# EAGLE library part LM3524 (library work)
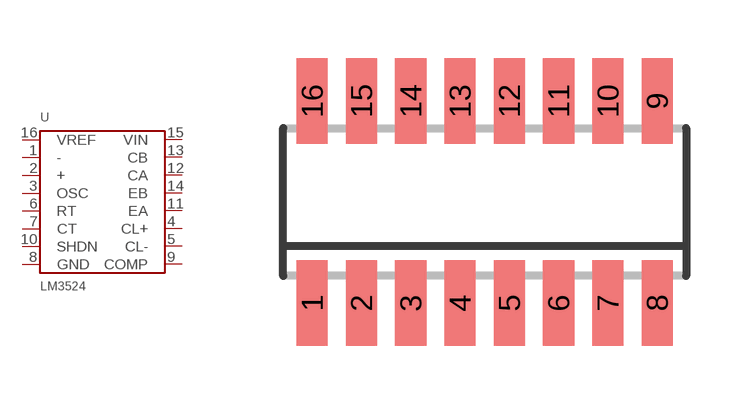
[diagram p56: symbol with the pads of SOIC16; footprint SOIC16]

Designator prefix U

## LM3524  [SOIC16]
1  -
2  +
3  OSC
4  CL+
5  CL-
6  RT
7  CT
8  GND
9  COMP
10  SHDN
11  EA
12  CA
13  CB
14  EB
15  VIN
16  VREF

## Footprint SOIC16 (pad centres in mm)
smd 0.8 x 2.2: 1 -4.445,-2.6; 2 -3.175,-2.6; 3 -1.905,-2.6; 4 -0.635,-2.6; 5 0.635,-2.6; 6 1.905,-2.6; 7 3.175,-2.6; 8 4.445,-2.6; 9 4.445,2.6; 10 3.175,2.6; 11 1.905,2.6; 12 0.635,2.6; 13 -0.635,2.6; 14 -1.905,2.6; 15 -3.175,2.6; 16 -4.445,2.6